# Altium schematic symbol library Edge_logic_analyzer.SchLib: 73 symbols (part 1 of 2)
Pins are listed as number, name and electrical type; pins without a type are passive.

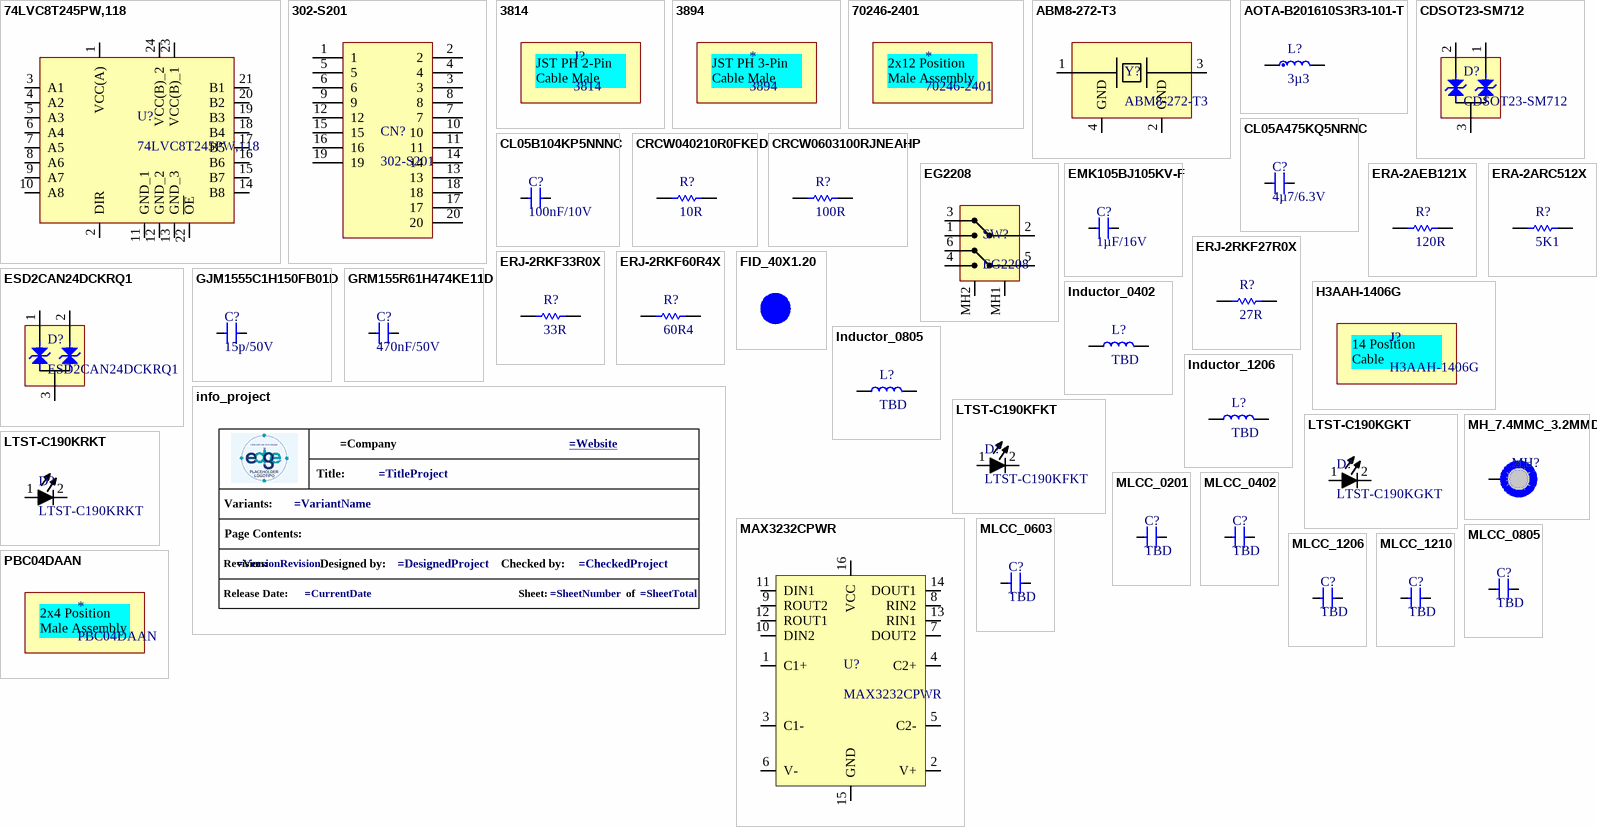
[diagram p0: symbols 74LVC8T245PW,118 to PBC04DAAN]

## 74LVC8T245PW,118
designator U?
IC - Translation Transceiver 1 Element 8 Bit per Element 3-State Output 24-TSSOP; Manufacturer 1: Nexperia; .Mounting: SMT; Datasheet Link: https://assets.nexperia.com/documents/data-sheet/74LVC_LVCH8T245.pdf; Height: 1.1mm; Manufacturer Part Number 1: 74LVC8T245PW,118; Mouser Part Number: 771-74LVC8T245PW118; Mouser Price/Stock: https://www.mouser.co.uk/ProductDetail/Nexperia/74LVC8T245PW118?qs=jquClx72t9C%2Fd6XxNRL47g%3D%3D; Arrow Part Number: 74LVC8T245PW,118; Arrow Price/Stock: https://www.arrow.com/en/products/74lvc8t245pw118/nexperia?region=nac; .PBChecked: *; .SCHChecked: *
footprint 74LVC8T245PW,118
pins: 1 VCC(A), 2 DIR, 3 A1, 4 A2, 5 A3, 6 A4, 7 A5, 8 A6, 9 A7, 10 A8, 11 GND_1, 12 GND_2, 13 GND_3, 14 B8, 15 B7, 16 B6, 17 B5, 18 B4, 19 B3, 20 B2, 21 B1, 22 ~{OE}, 23 VCC(B)_1, 24 VCC(B)_2

## 302-S201
designator CN? 
CONN - Connector Header Through Hole 20 position 0.100" (2.54mm); Manufacturer 1: On Shore Technology Inc.; Description: Conn Shrouded Header HDR 20 POS 2.54mm Solder ST Thru-Hole; .Mounting: PTH; Datasheet Link: https://www.on-shore.com/wp-content/uploads/2018/04/302-SXX1.pdf; Height: 9.05mm; Manufacturer Part Number 1: 302-S201; Arrow Part Number: 302-S201; Arrow Price/Stock: https://www.arrow.com/en/products/302-s201/on-shore-technology?region=nac; .SCHChecked: *; .PCBChecked: *
footprint SHDR20W66P254_2X10_3300X905X905P
pins: 1, 2, 3, 4, 5, 6, 7, 8, 9, 10, 11, 12, 13, 14, 15, 16, 17, 18, 19, 20

## 3814
designator J?  (mechanical)
ASSEMBLY - JST PH 2-Pin Cable Male Header 200mm | Adafruit Industries 3814; Supplier: DigiKey; Supplier Part Number: 1528-2617-ND; Manufacturer 1: Adafruit Industries; Manufacturer Part Number: 3814; Category: Rectangular Connectors; Stock: 1710; Pricing: 1=0,75 (USD); Schedule B: 8544420000, 8544420000|8544420000|8544420000|8544420000|8544420000; .SCHChecked: *
text: JST PH 2-Pin Cable Male

## 3894
designator *  (mechanical)
ASSEMBLY - Cable Assembly, 3 Conductor(s), Flexible Cord And Fixture Wire; Manufacturer 1: Adafruit Industries; Cable Length: 200mm; Number of Conductors: 3; Shielding: No; Supplier: Arrow Electronics; Supplier Part Number: 3894; Manufacturer Part Number 1: 3894; RoHS: Compliant; Category: Cables and Wire; Stock: 716; Pricing: 1=0,236 (USD); Schedule B: 8544420000, 8544420000|8544420000|8544420000|8544420000|8544420000; ComponentLink1URL: https://datasheet.octopart.com:443/3894-Adafruit-Industries-datasheet-182218805.pdf?src-supplier=IHS; ComponentLink1Description: https://datasheet.octopart.com:443/3894-Adafruit-Industries-datasheet-182218805.pdf?src-supplier=IHS; .SCHChecked: *
text: JST PH 3-Pin Cable Male

## 70246-2401
designator *  (mechanical)
ASSEMBLY - Conn Shrouded Header (4 Sides) HDR 24 POS 2.54mm Solder ST Top Entry Thru-Hole C-Grid® Tray; Manufacturer 1: Molex; Manufacturer Lifecycle Status: ACTIVE; Connector Type: Male Pin; Contact Resistance: 15mΩ; Current Rating: 2.5A; Gender: Male; Glow Wire Compliant: Non-compliant; Insulation Resistance: 12GΩ; Max Voltage Rating (AC): 250V; Number of Circuits: 20; Number of Contacts: 24; Plating: Tin; Plating Thickness: 381nm; Supplier: Newark; Supplier Part Number: 70246-2401; Manufacturer Part Number 1: 70246-2401; RoHS: Compliant; Category: Headers and Wire Housings; Stock: 2743; Pricing: 81=1,91, 100=1,67, 250=1,61, 500=1,55, 1000=1,48 (USD); China RoHS: Compliant; Color: Black; Contact Gender: Male; Contact Material: Bronze; Contact Mating Length: 6.096mm; Contact Plating: Gold; Country of Origin: SG; ELV: Compliant; Flammability Rating: UL94 V-0; Housing Color: Black; Housing Material: Polyester; Lead Free: Lead Free; Lifecycle Status: Production; Max Operating Temperature: 120°C; Min Operating Temperature: -55°C; Mounting Technology: Through Hole; Pins: 24; Number of Positions: 24; Number of Rows: 2; Orientation: Vertical; Pitch: 2.54mm; REACH SVHC: Yes; Row Spacing: 2.54mm; Terminal Pitch: 2.54mm; Termination: Solder; Voltage Rating: 250V; ComponentLink1URL: https://datasheet.octopart.com:443/70246-2401-Molex-datasheet-13789974.pdf?src-supplier=Sager+Electronics; ComponentLink1Description: https://datasheet.octopart.com:443/70246-2401-Molex-datasheet-13789974.pdf?src-supplier=Sager+Electronics; ComponentLink2URL: https://sigma.octopart.com:443/15650474/technical_drawing/Molex-70246-2401.pdf?src-supplier=Molex; ComponentLink2Description: https://sigma.octopart.com:443/15650474/technical_drawing/Molex-70246-2401.pdf?src-supplier=Molex; ComponentLink3URL: https://datasheet.octopart.com:443/702462401-Molex-datasheet-8335533.pdf?src-supplier=Verical; ComponentLink3Description: https://datasheet.octopart.com:443/702462401-Molex-datasheet-8335533.pdf?src-supplier=Verical; ComponentLink4URL: https://datasheet.octopart.com:443/70246-2401-Molex-datasheet-5315796.pdf?src-supplier=Verical; ComponentLink4Description: https://datasheet.octopart.com:443/70246-2401-Molex-datasheet-5315796.pdf?src-supplier=Verical; ComponentLink5URL: https://datasheet.octopart.com:443/70246-2401-Molex-datasheet-154757668.pdf?src-supplier=Master+Electronics; ComponentLink5Description: https://datasheet.octopart.com:443/70246-2401-Molex-datasheet-154757668.pdf?src-supplier=Master+Electronics; ComponentLink6URL: https://datasheet.octopart.com:443/70246-2401-Molex-datasheet-168217419.pdf?src-supplier=TME; ComponentLink6Description: https://datasheet.octopart.com:443/70246-2401-Molex-datasheet-168217419.pdf?src-supplier=TME; ComponentLink7URL: https://datasheet.octopart.com:443/70246-2401-Molex-datasheet-140187450.pdf?src-supplier=RS+(Formerly+Allied+Electronics); ComponentLink7Description: https://datasheet.octopart.com:443/70246-2401-Molex-datasheet-140187450.pdf?src-supplier=RS+(Formerly+Allied+Electronics); ComponentLink8URL: https://datasheet.octopart.com:443/70246-2401-Molex-datasheet-120155468.pdf?src-supplier=RS+(Formerly+Allied+Electronics); ComponentLink8Description: https://datasheet.octopart.com:443/70246-2401-Molex-datasheet-120155468.pdf?src-supplier=RS+(Formerly+Allied+Electronics); ComponentLink9URL: https://datasheet.octopart.com:443/70246-2401-Molex-datasheet-62105713.pdf?src-supplier=Electro+Sonic; ComponentLink9Description: https://datasheet.octopart.com:443/70246-2401-Molex-datasheet-62105713.pdf?src-supplier=Electro+Sonic; ComponentLink10URL: https://datasheet.octopart.com:443/70246-2401-Molex-datasheet-37171966.pdf?src-supplier=Electro+Sonic; ComponentLink10Description: https://datasheet.octopart.com:443/70246-2401-Molex-datasheet-37171966.pdf?src-supplier=Electro+Sonic; ComponentLink11URL: https://datasheet.octopart.com:443/70246-2401-Molex-datasheet-23710771.pdf?src-supplier=Electro+Sonic; ComponentLink11Description: https://datasheet.octopart.com:443/70246-2401-Molex-datasheet-23710771.pdf?src-supplier=Electro+Sonic; ComponentLink12URL: https://datasheet.octopart.com:443/0702462401-Molex-datasheet-11802917.pdf?src-supplier=Arrow+Electronics; ComponentLink12Description: https://datasheet.octopart.com:443/0702462401-Molex-datasheet-11802917.pdf?src-supplier=Arrow+Electronics; ComponentLink13URL: https://datasheet.octopart.com:443/70246-2401-Molex-datasheet-138174.pdf?src-supplier=DigiKey; ComponentLink13Description: https://datasheet.octopart.com:443/70246-2401-Molex-datasheet-138174.pdf?src-supplier=DigiKey; ComponentLink14URL: http://sigma.octopart.com:80/15650497/rohs_certificate/Molex-70246-2401.pdf?src-supplier=Compliance+Statements; ComponentLink14Description: http://sigma.octopart.com:80/15650497/rohs_certificate/Molex-70246-2401.pdf?src-supplier=Compliance+Statements; ComponentLink15URL: http://sigma.octopart.com:80/conflict_mineral_statement/Molex-company-72.pdf?src-supplier=Compliance+Statements; ComponentLink15Description: http://sigma.octopart.com:80/conflict_mineral_statement/Molex-company-72.pdf?src-supplier=Compliance+Statements; ComponentLink16URL: http://sigma.octopart.com:80/rohs_statement/Molex-company-73.pdf?src-supplier=Compliance+Statements; ComponentLink16Description: http://sigma.octopart.com:80/rohs_statement/Molex-company-73.pdf?src-supplier=Compliance+Statements; ComponentLink17URL: http://sigma.octopart.com:80/reach_statement/Molex-company-74.pdf?src-supplier=Compliance+Statements; ComponentLink17Description: http://sigma.octopart.com:80/reach_statement/Molex-company-74.pdf?src-supplier=Compliance+Statements; .SCHChecked: *
text: 2x12 Position Male Assembly

## ABM8-272-T3
designator Y?
IC - CRYSTAL 12 MHz ±30ppm Crystal 10pF 50 Ohms 4-SMD, No Lead; Manufacturer 1: ABRACON; .Mounting: SMT; Datasheet Link: https://abracon.com/datasheets/ABM8-272-T3.pdf; Height: 0.8mm; Manufacturer Part Number 1: ABM8-272-T3; Mouser Part Number: 815-ABM8-272-T3; Mouser Price/Stock: https://www.mouser.co.uk/ProductDetail/ABRACON/ABM8-272-T3?qs=QpmGXVUTftEj6miOiJBMxQ%3D%3D; .PCBChecked: *; .SCHChecked: *
footprint ABM8-272-T3
pins: 1 C1, 2 GND, 3 C2, 4 GND

## AOTA-B201610S3R3-101-T
designator L?, comment 3µ3
IND - 3.3 µH 2.1A 0806 140mOhm Shielded Molded Inductor  Max 0806 (2016 Metric); Manufacturer 1: Abracon; Manufacturer Part Number 1: AOTA-B201610S3R3-101-T; .Mounting: SMT; Supplier: Digikey; Supplier Part Number: 535-AOTA-B201610S3R3-101-TCT-ND; RoHS: No; Stock: 2887; Pricing: 1=0,22, 10=0,181, 100=0,1497, 1000=0,12251 (USD); .PCBChecked: *; .SCHChecked: *
footprint L0806 - RP2350
pins: 1, 2

## CDSOT23-SM712
designator D?
DIODE - TVS CLAMP 26V, 14V Clamp 17A (8/20µs) Ipp Tvs Diode Surface Mount SOT-23-3; Manufacturer 1: Bourns; .Mounting: SMT; Datasheet Link: http://uk.rs-online.com/web/p/products/7673728; Height: 1.17mm; Manufacturer Part Number 1: CDSOT23-SM712; Mouser Part Number: 652-CDSOT23-SM712; Mouser Price/Stock: https://www.mouser.co.uk/ProductDetail/Bourns/CDSOT23-SM712?qs=FuI%252BOVLl4%2FLTY%2FGQ265RLA%3D%3D; Arrow Part Number: CDSOT23-SM712; Arrow Price/Stock: https://www.arrow.com/en/products/cdsot23-sm712/bourns?utm_currency=USD&region=nac; .PCBChecked: *; .SCHChecked: *
footprint CDSOT23-SM712
pins: 1 IO_1, 2 IO_2, 3 GND

## CL05A475KQ5NRNC
designator C?, comment 4µ7/6.3V
MLCC - 4.7 µF 6.3V 0402 X5R ±10%  Ceramic Capacitor X5R; Manufacturer 1: Samsung; Manufacturer Part Number 1: CL05A475KQ5NRNC; Value: 4.7uF; Multilayer: Yes; .Mounting: SMT; Supplier: Digikey; Supplier Part Number: 1276-1481-1-ND; RoHS: Yes; Category: Ceramic Capacitors; Stock: 761086; Pricing: 1=0,08, 10=0,026, 100=0,016, 1000=0,0112, 2500=0,0096 (USD); Mounting Technology: Surface Mount; Pins: 2; Dielectric Material: Ceramic; Package Shape: Rectangular; Case/Package: 0402; Terminal Finish: Nickel; Min Operating Temperature: -55°C; Max Operating Temperature: 85°C; JESD-609 Code: e3; Capacitor Type: Ceramic; Tolerance  (fill in as +-): 10%; Packaging: Tape and Reel; Tolerance (fill in as +-): 10%; Rated DC Voltage (URdc): 6.3V; Temperature Characteristics Code: X5R; Termination: Wraparound; Reach SVHC Compliant: Yes; RoHS Compliant: Yes; ComponentLink1URL: https://datasheet.ciiva.com:443/pdfs/VipMasterIC/IC/SEMS/SEMS-S-A0008521219/SEMS-S-A0008521124-1.pdf?src-supplier=IHS+Markit; ComponentLink1Description: https://datasheet.ciiva.com:443/pdfs/VipMasterIC/IC/SEMS/SEMS-S-A0008521219/SEMS-S-A0008521124-1.pdf?src-supplier=IHS+Markit; ComponentLink2URL: https://datasheet.ciiva.com/25793/cl05a475kq5nrnc-25793634.pdf?src-supplier=Digikey; ComponentLink2Description: https://datasheet.ciiva.com/25793/cl05a475kq5nrnc-25793634.pdf?src-supplier=Digikey; ComponentLink3URL: https://datasheet.ciiva.com/26838/getdatasheetpartid-353228-26838196.pdf?src-supplier=Verical; ComponentLink3Description: https://datasheet.ciiva.com/26838/getdatasheetpartid-353228-26838196.pdf?src-supplier=Verical; .PCBChecked: *; .SCHChecked: *
footprint C0402
pins: 1, 2

## CL05B104KP5NNNC
designator C?, comment 100nF/10V
MLCC - 100nF 10V X7R 0402 ±10% Ceramic Capacitor; Manufacturer 1: Samsung; Manufacturer Part Number 1: CL05B104KP5NNNC; Multilayer: Yes; .Mounting: SMT; Supplier: Digikey; Supplier Part Number: 1276-1002-1-ND; RoHS: Yes; Category: Ceramic Capacitors; Stock: 29591550; Pricing: 1=0,08, 10=0,004, 100=0,0036, 1000=0,0032 (USD); Mounting Technology: Surface Mount; Pins: 2; Dielectric Material: Ceramic; Package Shape: Rectangular; Case/Package: 0402; Terminal Finish: Nickel; Min Operating Temperature: -55°C; Max Operating Temperature: 125°C; JESD-609 Code: e3; Value: 100nF; Capacitor Type: Ceramic; Tolerance  (fill in as +-): 10%; Package Style: SMTMeter; Packaging: Tape and Reel; Tolerance (fill in as +-): 10%; Rated DC Voltage (URdc): 10V; Temperature Characteristics Code: X7R; Termination: Wraparound; Length: 1mm; Width: 0.5mm; Height: 0.5mm; Reach SVHC Compliant: Yes; RoHS Compliant: Yes; ComponentLink1URL: https://datasheet.ciiva.com:443/pdfs/VipMasterIC/IC/SEMS/SEMS-S-A0008523115/SEMS-S-A0008523129-1.pdf?src-supplier=IHS+Markit; ComponentLink1Description: https://datasheet.ciiva.com:443/pdfs/VipMasterIC/IC/SEMS/SEMS-S-A0008523115/SEMS-S-A0008523129-1.pdf?src-supplier=IHS+Markit; ComponentLink2URL: https://datasheet.ciiva.com/15165/getdatasheetpartid-37100-15165107.pdf?src-supplier=Verical; ComponentLink2Description: https://datasheet.ciiva.com/15165/getdatasheetpartid-37100-15165107.pdf?src-supplier=Verical; ComponentLink3URL: https://datasheet.ciiva.com/16498/cl05b104kq5nnnc-16498491.pdf?src-supplier=Future+Electronics; ComponentLink3Description: https://datasheet.ciiva.com/16498/cl05b104kq5nnnc-16498491.pdf?src-supplier=Future+Electronics; .PCBChecked: *; .SCHChecked: *
footprint C0402
pins: 1, 2

## CRCW040210R0FKED
designator R?, comment 10R
RES - 10R  1/16W 0402 ±1%  Chip Resistor; Manufacturer 1: Vishay; Manufacturer Part Number 1: CRCW040210R0FKED; Power: 63mW; Working Voltage: 50V; Temperature Coefficient (ppm/Cel): 100; Rated Temperature: 70°C; Package Height: 0.35mm; Package Length: 1mm; Package Width: 0.5mm; Reference Standard: AEC-Q200; .Mounting: SMT; Supplier: Digikey; Supplier Part Number: 541-10.0LCT-ND; RoHS: Yes; Category: Chip SMD Resistors; Stock: 496296; Pricing: 1=0,1, 10=0,03, 100=0,0148, 1000=0,0084 (USD); Mounting Technology: Surface Mount; Pins: 2; Case/Package: 0402; Terminal Finish: Nickel; Package Shape: Rectangular; Min Operating Temperature: -55°C; Max Operating Temperature: 155°C; Tolerance: 1%; JESD-609 Code: e3; Resistor Type: FIXED RESISTOR; Construction: Chip; Packaging: Tape and Reel; Value: 10R; Technology: METAL GLAZE/THICK FILM; Termination: Wraparound; Reach SVHC Compliant: Yes; RoHS Compliant: Yes; ComponentLink1URL: https://datasheet.ciiva.com:443/pdfs/VipMasterIC/IC/VISH/VISH-S-A0007266705/VISH-S-A0007266705-1.pdf?src-supplier=IHS+Markit; ComponentLink1Description: https://datasheet.ciiva.com:443/pdfs/VipMasterIC/IC/VISH/VISH-S-A0007266705/VISH-S-A0007266705-1.pdf?src-supplier=IHS+Markit; ComponentLink2URL: https://datasheet.ciiva.com/2463/dcrcwe3-2463040.pdf?src-supplier=Digikey; ComponentLink2Description: https://datasheet.ciiva.com/2463/dcrcwe3-2463040.pdf?src-supplier=Digikey; ComponentLink3URL: https://datasheet.ciiva.com/2463/dcrcwe3-2463041.pdf?src-supplier=Digikey; ComponentLink3Description: https://datasheet.ciiva.com/2463/dcrcwe3-2463041.pdf?src-supplier=Digikey; ComponentLink4URL: https://datasheet.ciiva.com/2463/dcrcwe3-2463042.pdf?src-supplier=Digikey; ComponentLink4Description: https://datasheet.ciiva.com/2463/dcrcwe3-2463042.pdf?src-supplier=Digikey; ComponentLink5URL: https://datasheet.ciiva.com/8336/dcrcwe3-8336700.pdf?src-supplier=Avnet; ComponentLink5Description: https://datasheet.ciiva.com/8336/dcrcwe3-8336700.pdf?src-supplier=Avnet; ComponentLink6URL: https://datasheet.ciiva.com/16755/70201119-16755541.pdf?src-supplier=Allied+Electronics; ComponentLink6Description: https://datasheet.ciiva.com/16755/70201119-16755541.pdf?src-supplier=Allied+Electronics; ComponentLink7URL: https://datasheet.ciiva.com/16760/70201119-16760941.pdf?src-supplier=Allied+Electronics; ComponentLink7Description: https://datasheet.ciiva.com/16760/70201119-16760941.pdf?src-supplier=Allied+Electronics; .PCBChecked: *; .SCHChecked: *
footprint R0402
pins: 1, 2

## CRCW0603100RJNEAHP
designator R?, comment 100R
RES - 100R  1/3W 0603 (1608 Metric) ±5%; Manufacturer 1: Vishay Dale; Manufacturer Part Number 1: CRCW0603100RJNEAHP; Power: 250mW; Rated Temperature: 70°C; Working Voltage: 75V; Temperature Coefficient (ppm/Cel): 200; Package Height: 0.45mm; Package Length: 1.6mm; Package Width: 0.85mm; Reference Standard: AEC-Q200; .Mounting: SMT; Supplier: Digikey; Supplier Part Number: 541-100SACT-ND; RoHS: Yes; Category: Chip SMD Resistors; Stock: 18342; Pricing: 1=0,14, 10=0,07, 50=0,0458, 100=0,0388, 500=0,02794, 1000=0,0248 (USD); Mounting Technology: Surface Mount; Pins: 2; Package Shape: Rectangular; Case/Package: 0603; Terminal Finish: Nickel; Min Operating Temperature: -55°C; Max Operating Temperature: 155°C; Tolerance: 5%; JESD-609 Code: e3; Resistor Type: FIXED RESISTOR; Construction: Chip; Packaging: Tape and Reel; Value: 100R; Technology: METAL GLAZE/THICK FILM; Termination: Wraparound; Reach SVHC Compliant: Yes; RoHS Compliant: Yes; ComponentLink1URL: https://datasheet.ciiva.com:443/pdfs/VipMasterIC/IC/VISH/VISH-S-A0009391795/VISH-S-A0009391795-1.pdf?src-supplier=IHS+Markit; ComponentLink1Description: https://datasheet.ciiva.com:443/pdfs/VipMasterIC/IC/VISH/VISH-S-A0009391795/VISH-S-A0009391795-1.pdf?src-supplier=IHS+Markit; ComponentLink2URL: https://datasheet.ciiva.com/8979/crcwhpe3-8979829.pdf?src-supplier=Avnet; ComponentLink2Description: https://datasheet.ciiva.com/8979/crcwhpe3-8979829.pdf?src-supplier=Avnet; ComponentLink3URL: https://datasheet.ciiva.com/5562/crcwhpe3-46056-5562229.pdf?src-supplier=Mouser; ComponentLink3Description: https://datasheet.ciiva.com/5562/crcwhpe3-46056-5562229.pdf?src-supplier=Mouser; .PCBChecked: *; .SCHChecked: *
footprint R0603
pins: 1, 2

## EG2208
designator SW?
SWITCH - Slide Switch DPDT Through Hole, Right Angle; Manufacturer 1: E-Switch; .Mounting: PTH; Datasheet Link: https://configured-product-images.s3.amazonaws.com/2D/specs/EG2208.pdf; Height: 5mm; Manufacturer Part Number 1: EG2208; Mouser Part Number: 612-EG2208; Mouser Price/Stock: https://www.mouser.co.uk/ProductDetail/E-Switch/EG2208?qs=xDsBkp9LkodhU1lD9QrRVw%3D%3D; .SCHChecked: *; .PCBChecked: *
footprint EG2208
pins: 1, 2 COM_1, 3, 4, 5 COM_2, 6, MH1, MH2

## EMK105BJ105KV-F
designator C?, comment 1µF/16V
MLCC - 1µF 16V 0402 X5R ±10%.; Manufacturer 1: Taiyo Yuden; Manufacturer Part Number 1: EMK105BJ105KV-F; Dielectric Material: Ceramic; Value: 1uF; Multilayer: Yes; Tolerance  (fill in as +-): 10%; .Mounting: SMT; Supplier 1: Avnet; Supplier Part Number 1: 84R9109; RoHS: Yes; Category: Ceramic Capacitors; Stock: 100000; Pricing: 10000=0,007, 20000=0,008 (USD); Mounting Technology: Surface Mount; Pins: 2; Package Shape: Rectangular; Case/Package: 0402; Terminal Finish: Nickel; Min Operating Temperature: -55°C; Max Operating Temperature: 85°C; JESD-609 Code: e3; Capacitor Type: Ceramic; Package Style: SMTMeter; Packaging: Tape and Reel; Tolerance (fill in as +-): 10%; Rated DC Voltage (URdc): 16V; Temperature Characteristics Code: X5R; Termination: Wraparound; Length: 1mm; Width: 0.5mm; Height: 0.5mm; Reach SVHC Compliant: Yes; RoHS Compliant: Yes; ComponentLink1URL: https://datasheet.ciiva.com:443/pdfs/VipMasterIC/IC/TAIY/TAIY-S-A0009096450/TAIY-S-A0009096597-1.pdf?src-supplier=IHS+Markit; ComponentLink1Description: https://datasheet.ciiva.com:443/pdfs/VipMasterIC/IC/TAIY/TAIY-S-A0009096450/TAIY-S-A0009096597-1.pdf?src-supplier=IHS+Markit; ComponentLink2URL: https://datasheet.ciiva.com/134/emk105bj105kv-f-ss-134209.pdf?src-supplier=Digikey; ComponentLink2Description: https://datasheet.ciiva.com/134/emk105bj105kv-f-ss-134209.pdf?src-supplier=Digikey; ComponentLink3URL: https://datasheet.ciiva.com/30259/265emk105bj105kv-f-30259872.pdf?src-supplier=Onlinecomponents.com; ComponentLink3Description: https://datasheet.ciiva.com/30259/265emk105bj105kv-f-30259872.pdf?src-supplier=Onlinecomponents.com; ComponentLink4URL: https://datasheet.ciiva.com/15920/964emk105bj105kv-f-15920402.pdf?src-supplier=Onlinecomponents.com; ComponentLink4Description: https://datasheet.ciiva.com/15920/964emk105bj105kv-f-15920402.pdf?src-supplier=Onlinecomponents.com; ComponentLink5URL: https://datasheet.ciiva.com/26871/getdatasheetpartid-638287-26871289.pdf?src-supplier=Verical; ComponentLink5Description: https://datasheet.ciiva.com/26871/getdatasheetpartid-638287-26871289.pdf?src-supplier=Verical; ComponentLink6URL: https://datasheet.ciiva.com/5424/mlcc01-e-5424190.pdf?src-supplier=Mouser; ComponentLink6Description: https://datasheet.ciiva.com/5424/mlcc01-e-5424190.pdf?src-supplier=Mouser; ComponentLink7URL: https://datasheet.ciiva.com/22694/1497285-22694239.pdf?src-supplier=Element14; ComponentLink7Description: https://datasheet.ciiva.com/22694/1497285-22694239.pdf?src-supplier=Element14; ComponentLink8URL: https://datasheet.ciiva.com/7657/1497285-7657320.pdf?src-supplier=Element14; ComponentLink8Description: https://datasheet.ciiva.com/7657/1497285-7657320.pdf?src-supplier=Element14; .PCBChecked: *; .SCHChecked: *
footprint C0402
pins: 1, 2

## ERA-2AEB121X
designator R?, comment 120R
RES - 120R  1/16W  0402  ±0.1% Chip Resistor; Manufacturer 1: Panasonic; Manufacturer Part Number 1: ERA-2AEB121X; Power: 63mW; Rated Temperature: 85°C; Working Voltage: 25V; Temperature Coefficient (ppm/Cel): 25; Package Height: 0.35mm; Package Length: 1mm; Package Width: 0.5mm; Reference Standard: AEC-Q200; .Mounting: SMT; Supplier: Digikey; Supplier Part Number: P120DCCT-ND; RoHS: Yes; Category: Chip SMD Resistors; Stock: 44539; Pricing: 1=0,1, 10=0,082, 50=0,0716, 100=0,0677, 500=0,05944, 1000=0,05637, 5000=0,05076, 10000=0,05153, 20000=0,04948, 30000=0,04884, 50000=0,04563 (USD); Mounting Technology: Surface Mount; Pins: 2; Case/Package: 0402; Terminal Finish: Nickel; Min Operating Temperature: -55°C; Max Operating Temperature: 155°C; Tolerance: 0.1%; JESD-609 Code: e3; Termination: Wraparound; Resistor Type: FIXED RESISTOR; Construction: Rectangular; Packaging: Tape and Reel; Value: 120R; Technology: THIN FILM; Reach SVHC Compliant: Yes; RoHS Compliant: Yes; ComponentLink1URL: https://datasheet.ciiva.com:443/pdfs/VipMasterIC/IC/PANA/PANA-S-A0009459258/PANA-S-A0009459258-1.pdf?src-supplier=IHS+Markit; ComponentLink1Description: https://datasheet.ciiva.com:443/pdfs/VipMasterIC/IC/PANA/PANA-S-A0009459258/PANA-S-A0009459258-1.pdf?src-supplier=IHS+Markit; ComponentLink2URL: https://datasheet.ciiva.com/22737/1776116-22737243.pdf?src-supplier=Element14; ComponentLink2Description: https://datasheet.ciiva.com/22737/1776116-22737243.pdf?src-supplier=Element14; ComponentLink3URL: https://datasheet.ciiva.com/22737/1776116-22737244.pdf?src-supplier=Element14; ComponentLink3Description: https://datasheet.ciiva.com/22737/1776116-22737244.pdf?src-supplier=Element14; ComponentLink4URL: https://datasheet.ciiva.com/24024/aoa0000ce26-197354-24024678.pdf?src-supplier=Mouser; ComponentLink4Description: https://datasheet.ciiva.com/24024/aoa0000ce26-197354-24024678.pdf?src-supplier=Mouser; ComponentLink5URL: https://datasheet.ciiva.com/25720/1776116-25720558.pdf?src-supplier=Farnell; ComponentLink5Description: https://datasheet.ciiva.com/25720/1776116-25720558.pdf?src-supplier=Farnell; ComponentLink6URL: https://datasheet.ciiva.com/9186/aoa0000ce26-9186151.pdf?src-supplier=Avnet; ComponentLink6Description: https://datasheet.ciiva.com/9186/aoa0000ce26-9186151.pdf?src-supplier=Avnet; ComponentLink7URL: https://datasheet.ciiva.com/30070/54aoa0000ce26-30070076.pdf?src-supplier=Onlinecomponents.com; ComponentLink7Description: https://datasheet.ciiva.com/30070/54aoa0000ce26-30070076.pdf?src-supplier=Onlinecomponents.com; .SCHChecked: *; .PCBChecked: *
footprint R0402
pins: 1, 2

## ERA-2ARC512X
designator R?, comment 5K1
RES - 5K1 Ohm 1/16W 0402 ±0.25% 50V; Manufacturer 1: Panasonic; Manufacturer Part Number 1: ERA-2ARC512X; .Mounting: SMT; Value: 5.1K; Supplier: Mouser; Supplier Part Number: 667-ERA-2ARC512X; RoHS: Yes; Category: Chip SMD Resistors; Stock: 3234; Pricing: 1=0,21, 10=0,177, 50=0,157, 100=0,147, 1000=0,121, 10000=0,104 (USD); ComponentLink1URL: https://industrial.panasonic.com/cdbs/www-data/pdf/RDM0000/AOA0000C307.pdf?src-supplier=Digikey; ComponentLink1Description: https://industrial.panasonic.com/cdbs/www-data/pdf/RDM0000/AOA0000C307.pdf?src-supplier=Digikey; .SCHChecked: *; .PCBChecked: *
footprint R0402
pins: 1, 2

## ERJ-2RKF27R0X
designator R?, comment 27R
RES- 27R 1/10W  0402 ±1% 0.1W Chip Resistor; Manufacturer 1: Panasonic; Manufacturer Part Number 1: ERJ-2RKF27R0X; Power: 100mW; Rated Temperature: 70°C; Working Voltage: 50V; Temperature Coefficient (ppm/Cel): 100; Package Height: 0.35mm; Package Length: 1mm; Package Width: 0.5mm; Reference Standard: AEC-Q200; .Mounting: SMT; Supplier: Digikey; Supplier Part Number: P27.0LCT-ND; RoHS: Yes; Category: Chip SMD Resistors; Stock: 682991; Pricing: 1=0,1, 10=0,028, 100=0,0138, 1000=0,00766, 2500=0,00632, 5000=0,00554 (USD); Mounting Technology: Surface Mount; Pins: 2; Package Shape: Rectangular; Case/Package: 0402; Terminal Finish: Nickel; Min Operating Temperature: -55°C; Max Operating Temperature: 155°C; Tolerance: 1%; JESD-609 Code: e3; Resistor Type: FIXED RESISTOR; Construction: Rectangular; Packaging: Tape and Reel; Value: 27R; Technology: METAL GLAZE/THICK FILM; Termination: Wraparound; Reach SVHC Compliant: Yes; RoHS Compliant: Yes; ComponentLink1URL: https://datasheet.ciiva.com:443/pdfs/VipMasterIC/IC/PANA/PANA-S-A0009889626/PANA-S-A0009889626-1.pdf?src-supplier=IHS+Markit; ComponentLink1Description: https://datasheet.ciiva.com:443/pdfs/VipMasterIC/IC/PANA/PANA-S-A0009889626/PANA-S-A0009889626-1.pdf?src-supplier=IHS+Markit; ComponentLink2URL: https://datasheet.ciiva.com/11821/0900766b80f80784-11821276.pdf?src-supplier=Rs; ComponentLink2Description: https://datasheet.ciiva.com/11821/0900766b80f80784-11821276.pdf?src-supplier=Rs; ComponentLink3URL: https://datasheet.ciiva.com/46373/1678782-46373578.pdf?src-supplier=Element14; ComponentLink3Description: https://datasheet.ciiva.com/46373/1678782-46373578.pdf?src-supplier=Element14; ComponentLink4URL: https://datasheet.ciiva.com/46373/1678782-46373579.pdf?src-supplier=Element14; ComponentLink4Description: https://datasheet.ciiva.com/46373/1678782-46373579.pdf?src-supplier=Element14; ComponentLink5URL: https://datasheet.ciiva.com/22681/1678782-22681159.pdf?src-supplier=Element14; ComponentLink5Description: https://datasheet.ciiva.com/22681/1678782-22681159.pdf?src-supplier=Element14; ComponentLink6URL: https://datasheet.ciiva.com/7891/aoa0000ce2-7891306.pdf?src-supplier=Element14; ComponentLink6Description: https://datasheet.ciiva.com/7891/aoa0000ce2-7891306.pdf?src-supplier=Element14; ComponentLink7URL: https://datasheet.ciiva.com/7891/426256-7891578.pdf?src-supplier=Element14; ComponentLink7Description: https://datasheet.ciiva.com/7891/426256-7891578.pdf?src-supplier=Element14; ComponentLink8URL: https://datasheet.ciiva.com/9191/aoa0000ce2-9191129.pdf?src-supplier=Avnet; ComponentLink8Description: https://datasheet.ciiva.com/9191/aoa0000ce2-9191129.pdf?src-supplier=Avnet; ComponentLink9URL: https://datasheet.ciiva.com/9191/aoa0000ce2-9191130.pdf?src-supplier=Avnet; ComponentLink9Description: https://datasheet.ciiva.com/9191/aoa0000ce2-9191130.pdf?src-supplier=Avnet; ComponentLink10URL: https://datasheet.ciiva.com/43467/1678782-43467165.pdf?src-supplier=Farnell; ComponentLink10Description: https://datasheet.ciiva.com/43467/1678782-43467165.pdf?src-supplier=Farnell; .PCBChecked: *; .SCHChecked: *
footprint R0402
pins: 1, 2

## ERJ-2RKF33R0X
designator R?, comment 33R
RES - 33R 1/10W 0402 ±1%  Chip Resistor; Manufacturer 1: Panasonic; Manufacturer Part Number 1: ERJ-2RKF33R0X; Power: 100mW; Rated Temperature: 70°C; Working Voltage: 50V; Temperature Coefficient (ppm/Cel): 100; Package Height: 0.35mm; Package Length: 1mm; Package Width: 0.5mm; Reference Standard: AEC-Q200; .Mounting: SMT; Supplier: Digikey; Supplier Part Number: P33.0LCT-ND; RoHS: Yes; Category: Chip SMD Resistors; Stock: 66806; Pricing: 1=0,1, 10=0,028, 100=0,0138, 1000=0,00766, 2500=0,00632, 5000=0,00554 (USD); Mounting Technology: Surface Mount; Pins: 2; Package Shape: Rectangular; Case/Package: 0402; Terminal Finish: Nickel; Min Operating Temperature: -55°C; Max Operating Temperature: 155°C; Tolerance: 1%; JESD-609 Code: e3; Resistor Type: FIXED RESISTOR; Construction: Rectangular; Packaging: Tape and Reel; Value: 33R; Technology: METAL GLAZE/THICK FILM; Termination: Wraparound; Reach SVHC Compliant: Yes; RoHS Compliant: Yes; ComponentLink1URL: https://datasheet.ciiva.com:443/pdfs/VipMasterIC/IC/PANA/PANA-S-A0009889626/PANA-S-A0009889626-1.pdf?src-supplier=IHS+Markit; ComponentLink1Description: https://datasheet.ciiva.com:443/pdfs/VipMasterIC/IC/PANA/PANA-S-A0009889626/PANA-S-A0009889626-1.pdf?src-supplier=IHS+Markit; ComponentLink2URL: https://datasheet.ciiva.com/11821/0900766b80f80784-11821292.pdf?src-supplier=Rs; ComponentLink2Description: https://datasheet.ciiva.com/11821/0900766b80f80784-11821292.pdf?src-supplier=Rs; ComponentLink3URL: https://datasheet.ciiva.com/5917/aoa0000ce2-5917817.pdf?src-supplier=Farnell; ComponentLink3Description: https://datasheet.ciiva.com/5917/aoa0000ce2-5917817.pdf?src-supplier=Farnell; ComponentLink4URL: https://datasheet.ciiva.com/43467/1678782-43467173.pdf?src-supplier=Farnell; ComponentLink4Description: https://datasheet.ciiva.com/43467/1678782-43467173.pdf?src-supplier=Farnell; ComponentLink5URL: https://datasheet.ciiva.com/9190/aoa0000ce2-9190507.pdf?src-supplier=Avnet; ComponentLink5Description: https://datasheet.ciiva.com/9190/aoa0000ce2-9190507.pdf?src-supplier=Avnet; ComponentLink6URL: https://datasheet.ciiva.com/24023/aoa0000ce2-24023999.pdf?src-supplier=Mouser; ComponentLink6Description: https://datasheet.ciiva.com/24023/aoa0000ce2-24023999.pdf?src-supplier=Mouser; ComponentLink7URL: https://datasheet.ciiva.com/46373/1678782-46373081.pdf?src-supplier=Element14; ComponentLink7Description: https://datasheet.ciiva.com/46373/1678782-46373081.pdf?src-supplier=Element14; ComponentLink8URL: https://datasheet.ciiva.com/46373/1678782-46373082.pdf?src-supplier=Element14; ComponentLink8Description: https://datasheet.ciiva.com/46373/1678782-46373082.pdf?src-supplier=Element14; ComponentLink9URL: https://datasheet.ciiva.com/7836/aoa0000ce2-7836490.pdf?src-supplier=Element14; ComponentLink9Description: https://datasheet.ciiva.com/7836/aoa0000ce2-7836490.pdf?src-supplier=Element14; ComponentLink10URL: https://datasheet.ciiva.com/7836/426256-7836813.pdf?src-supplier=Element14; ComponentLink10Description: https://datasheet.ciiva.com/7836/426256-7836813.pdf?src-supplier=Element14; ComponentLink11URL: https://datasheet.ciiva.com/16777/70260748-16777705.pdf?src-supplier=Allied+Electronics; ComponentLink11Description: https://datasheet.ciiva.com/16777/70260748-16777705.pdf?src-supplier=Allied+Electronics; .PCBChecked: *; .SCHChecked: *
footprint R0402
pins: 1, 2

## ERJ-2RKF60R4X
designator R?, comment 60R4
RES - 60R4  1/10W 0402  ±1%  Chip Resistor; Manufacturer 1: Panasonic; Manufacturer Part Number 1: ERJ-2RKF60R4X; Power: 100mW; Rated Temperature: 70°C; Value: 60.4R; Working Voltage: 50V; Temperature Coefficient (ppm/Cel): 100; Package Height: 0.35mm; Package Length: 1mm; Package Width: 0.5mm; Reference Standard: AEC-Q200; .Mounting: SMT; Supplier: Digikey; Supplier Part Number: P60.4LCT-ND; RoHS: Yes; Category: Chip SMD Resistors; Stock: 175855; Pricing: 1=0,1, 10=0,028, 100=0,0138, 1000=0,00766, 2500=0,00632, 5000=0,00554 (USD); Mounting Technology: Surface Mount; Pins: 2; Package Shape: Rectangular; Case/Package: 0402; Terminal Finish: Nickel; Min Operating Temperature: -55°C; Max Operating Temperature: 155°C; Tolerance: 1%; JESD-609 Code: e3; Resistor Type: FIXED RESISTOR; Construction: Rectangular; Packaging: Tape and Reel; Technology: METAL GLAZE/THICK FILM; Termination: Wraparound; Reach SVHC Compliant: Yes; RoHS Compliant: Yes; ComponentLink1URL: https://datasheet.ciiva.com:443/pdfs/VipMasterIC/IC/PANA/PANA-S-A0009889626/PANA-S-A0009889626-1.pdf?src-supplier=IHS+Markit; ComponentLink1Description: https://datasheet.ciiva.com:443/pdfs/VipMasterIC/IC/PANA/PANA-S-A0009889626/PANA-S-A0009889626-1.pdf?src-supplier=IHS+Markit; ComponentLink2URL: https://datasheet.ciiva.com/9188/aoa0000ce2-9188454.pdf?src-supplier=Avnet; ComponentLink2Description: https://datasheet.ciiva.com/9188/aoa0000ce2-9188454.pdf?src-supplier=Avnet; ComponentLink3URL: https://datasheet.ciiva.com/9188/aoa0000ce2-9188457.pdf?src-supplier=Avnet; ComponentLink3Description: https://datasheet.ciiva.com/9188/aoa0000ce2-9188457.pdf?src-supplier=Avnet; ComponentLink4URL: https://datasheet.ciiva.com/16777/70260748-16777353.pdf?src-supplier=Allied+Electronics; ComponentLink4Description: https://datasheet.ciiva.com/16777/70260748-16777353.pdf?src-supplier=Allied+Electronics; ComponentLink5URL: https://datasheet.ciiva.com/16783/70260748-16783483.pdf?src-supplier=Allied+Electronics; ComponentLink5Description: https://datasheet.ciiva.com/16783/70260748-16783483.pdf?src-supplier=Allied+Electronics; ComponentLink6URL: https://datasheet.ciiva.com/7853/aoa0000ce2-7853695.pdf?src-supplier=Element14; ComponentLink6Description: https://datasheet.ciiva.com/7853/aoa0000ce2-7853695.pdf?src-supplier=Element14; ComponentLink7URL: https://datasheet.ciiva.com/46373/1678782-46373448.pdf?src-supplier=Element14; ComponentLink7Description: https://datasheet.ciiva.com/46373/1678782-46373448.pdf?src-supplier=Element14; ComponentLink8URL: https://datasheet.ciiva.com/46373/1678782-46373449.pdf?src-supplier=Element14; ComponentLink8Description: https://datasheet.ciiva.com/46373/1678782-46373449.pdf?src-supplier=Element14; ComponentLink9URL: https://datasheet.ciiva.com/22674/1678782-22674277.pdf?src-supplier=Element14; ComponentLink9Description: https://datasheet.ciiva.com/22674/1678782-22674277.pdf?src-supplier=Element14; .PCBChecked: *; .SCHChecked: *
footprint R0402
pins: 1, 2

## ESD2CAN24DCKRQ1
designator D?
DIODE - TVS CLAMP - 37V (Typ) Clamp 5.7A (8/20µs) Ipp Tvs Diode Surface Mount SC-70-3; Manufacturer 1: Texas Instruments; .Mounting: SMT; Datasheet Link: https://www.ti.com/lit/ds/symlink/esd2can24-q1.pdf?ts=1669637432096&ref_url=https%253A%252F%252Fwww.ti.com%252Fproduct%252FESD2CAN24-Q1; Height: 1.1mm; Manufacturer Part Number 1: ESD2CAN24DCKRQ1; Mouser Part Number: 595-ESD2CAN24DCKRQ1; Mouser Price/Stock: https://www.mouser.co.uk/ProductDetail/Texas-Instruments/ESD2CAN24DCKRQ1?qs=Y0Uzf4wQF3mF7ctB4rszMA%3D%3D; Arrow Part Number: ESD2CAN24DCKRQ1; Arrow Price/Stock: https://www.arrow.com/en/products/esd2can24dckrq1/texas-instruments?utm_currency=USD&region=nac; .PCBChecked: *; .SCHChecked: *
footprint ESD2CAN24DCKRQ1
pins: 1 IO_1, 2 IO_2, 3 GND

## FID_40X1.20
designator FID?  (value not drawn)  (no BOM)
Fiducials
footprint FID_40X1.20

## GJM1555C1H150FB01D
designator C?, comment 15p/50V
MLCC - 15 pF 50V 0402 X5R ±1%  Ceramic Capacitor C0G, NP0; Manufacturer 1: Murata; Manufacturer Part Number 1: GJM1555C1H150FB01D; Value: 15pF; Multilayer: Yes; .Mounting: SMT; Supplier: Digikey; Supplier Part Number: 490-11191-1-ND; RoHS: Yes; Category: Ceramic Capacitors; Stock: 61415; Pricing: 1=0,13, 10=0,074, 100=0,0446, 1000=0,02973, 2500=0,02606, 5000=0,02385 (USD); Mounting Technology: Surface Mount; Pins: 2; Dielectric Material: Ceramic; Package Shape: Rectangular; Case/Package: 0402; Terminal Finish: Nickel; Min Operating Temperature: -55°C; Max Operating Temperature: 125°C; JESD-609 Code: e3; Capacitor Type: Ceramic; Tolerance  (fill in as +-): 1%; Packaging: Tape and Reel; Tolerance (fill in as +-): 1%; Rated DC Voltage (URdc): 50V; Temperature Characteristics Code: C0G; Termination: Wraparound; Reach SVHC Compliant: Yes; RoHS Compliant: Yes; ComponentLink1URL: https://datasheet.ciiva.com:443/pdfs/VipMasterIC/IC/MURE/MURE-S-A0004383799/MURE-S-A0004384018-1.pdf?src-supplier=IHS+Markit; ComponentLink1Description: https://datasheet.ciiva.com:443/pdfs/VipMasterIC/IC/MURE/MURE-S-A0004383799/MURE-S-A0004384018-1.pdf?src-supplier=IHS+Markit; ComponentLink2URL: https://datasheet.ciiva.com/11608/c02e-11608383.pdf?src-supplier=Avnet; ComponentLink2Description: https://datasheet.ciiva.com/11608/c02e-11608383.pdf?src-supplier=Avnet; .PCBChecked: *; .SCHChecked: *
footprint C0402
pins: 1, 2

## GRM155R61H474KE11D
designator C?, comment 470nF/50V
MLCC - 480nF 50V X5R 0402  ±10%  Ceramic Capacitor; Manufacturer 1: Murata; Manufacturer Part Number 1: GRM155R61H474KE11D; Value: 470nF; Multilayer: Yes; .Mounting: SMT; Supplier: Digikey; Supplier Part Number: 490-16354-1-ND; RoHS: Yes; Category: Ceramic Capacitors; Stock: 147570; Pricing: 1=0,1, 10=0,051, 100=0,0304, 1000=0,01969, 2500=0,01739, 5000=0,01546 (USD); Mounting Technology: Surface Mount; Pins: 2; Dielectric Material: Ceramic; Package Shape: Rectangular; Case/Package: 0402; Terminal Finish: Tin; Min Operating Temperature: -55°C; Max Operating Temperature: 85°C; JESD-609 Code: e3; Capacitor Type: Ceramic; Tolerance  (fill in as +-): 10%; Packaging: Tape and Reel; Tolerance (fill in as +-): 10%; Rated DC Voltage (URdc): 50V; Temperature Characteristics Code: X5R; Termination: Wraparound; Reach SVHC Compliant: Yes; RoHS Compliant: Yes; ComponentLink1URL: https://datasheet.ciiva.com:443/pdfs/VipMasterIC/IC/MURE/MURE-S-A0004362469/MURE-S-A0004364779-1.pdf?src-supplier=IHS+Markit; ComponentLink1Description: https://datasheet.ciiva.com:443/pdfs/VipMasterIC/IC/MURE/MURE-S-A0004362469/MURE-S-A0004364779-1.pdf?src-supplier=IHS+Markit; ComponentLink2URL: http://search.murata.co.jp/Ceramy/image/img/A01X/G101/ENG/GRM155R61H474KE11-01.pdf?src-supplier=Digikey; ComponentLink2Description: http://search.murata.co.jp/Ceramy/image/img/A01X/G101/ENG/GRM155R61H474KE11-01.pdf?src-supplier=Digikey; ComponentLink3URL: https://datasheet.octopart.com/GRM155R61H474KE11D-Murata-datasheet-99353828.pdf?src-supplier=Future+Electronics; ComponentLink3Description: https://datasheet.octopart.com/GRM155R61H474KE11D-Murata-datasheet-99353828.pdf?src-supplier=Future+Electronics; .PCBChecked: *; .SCHChecked: *
footprint C0402
pins: 1, 2

## H3AAH-1406G
designator J?  (mechanical)
ASSEMBLY - Idc Cbl - HHSC14H/AE14G/HHSC14H; Manufacturer 1: ASSMANN WSW Components; Cable Pitch: 1.27mm; Connector Pitch: 2.54mm; Connector Type: IDC, Socket; Number of Contacts: 14; Shielding: Unshielded; Supplier: DigiKey; Supplier Part Number: H3AAH-1406G-ND; Manufacturer Part Number 1: H3AAH-1406G; RoHS: Compliant; Category: Cables and Wire; Stock: 455; Pricing: 1=1,19, 10=0,973, 25=0,8964, 50=0,843, 100=0,7927, 250=0,73076, 500=0,6872, 1000=0,64625, 2500=0,59586 (USD); Color: Grey; Contact Plating: Gold; Lead Free: Lead Free; Length: 152.4mm; Mounting Technology: Cable; Number of Positions: 14; Number of Rows: 2; .SCHChecked: *
text: 14 Position Cable Assembly

## Inductor_0402
designator L?, comment TBD
INDUCTOR - TBD 0402
footprint L0402
pins: 1, 2

## Inductor_0805
designator L?, comment TBD
INDUCTOR - TBD 0805
footprint L0805
pins: 1, 2

## Inductor_1206
designator L?, comment TBD
INDUCTOR - TBD 1206
footprint L1206 (Chip Capacitor, 2-Leads, Body 3.20x1.60mm, IPC Medium Density)
pins: 1, 2

## info_project
designator GPH?  (value not drawn)  (graphical)
GRAPHICAL - Info Project
text: Title:; Variants:; Page Contents:; Revision:; Designed by:; Checked by:; Release Date:; Sheet:; of

## LTST-C190KFKT
designator D?
DIODE - LED  Orange 605nm LED Indication - Discrete 2V 0603 (1608 Metric); Manufacturer 1: Vishay Lite-On; Shape: Rectangular; Optoelectronic Device Type: SINGLE COLOR LED; Lens Style: WATER CLEAR; Forward Current: 30mA; Forward Voltage: 2.4V; Luminous Intensity-Min: 130cd; Luminous Intensity-Nom: 90mcd; Channels: 1; Reverse Voltage-Max: 5V; Viewing Angle: 130°; Overall Height: 0.8mm; .Mounting: SMT; Supplier: Arrow Electronics; Supplier Part Number: LTST-C190KFKT; Manufacturer Part Number 1: LTST-C190KFKT; RoHS: Yes; Category: LEDs; Stock: 8000; Pricing: 4000=0,0337, 8000=0,0285, 24000=0,0224, 48000=0,022, 100000=0,0218 (USD); Mounting Technology: Surface Mount; Pins: 2; Color: Orange; Color@wavelength: Orange; Terminal Finish: Tin; Min Operating Temperature: -55°C; Max Operating Temperature: 85°C; JESD-609 Code: e3; Packaging: Tape and Reel; Size: 1.1mm; Terminal Pitch: 1.5mm; Reach SVHC Compliant: Yes; RoHS Compliant: Yes; ComponentLink1URL: https://datasheet.ciiva.com:443/pdfs/VipMasterIC/IC/LITE/LITE-S-A0008267416/LITE-S-A0008267416-1.pdf?src-supplier=IHS+Markit; ComponentLink1Description: https://datasheet.ciiva.com:443/pdfs/VipMasterIC/IC/LITE/LITE-S-A0008267416/LITE-S-A0008267416-1.pdf?src-supplier=IHS+Markit; ComponentLink2URL: https://datasheet.ciiva.com/11774/0900766b80dc02a7-11774744.pdf?src-supplier=Rs; ComponentLink2Description: https://datasheet.ciiva.com/11774/0900766b80dc02a7-11774744.pdf?src-supplier=Rs; ComponentLink3URL: https://datasheet.ciiva.com/12400/100-ltst-c190kfkt-53640-12400769.pdf?src-supplier=Mouser; ComponentLink3Description: https://datasheet.ciiva.com/12400/100-ltst-c190kfkt-53640-12400769.pdf?src-supplier=Mouser; ComponentLink4URL: https://datasheet.ciiva.com/15201/getdatasheetpartid-309341-15201388.pdf?src-supplier=Verical; ComponentLink4Description: https://datasheet.ciiva.com/15201/getdatasheetpartid-309341-15201388.pdf?src-supplier=Verical; ComponentLink5URL: https://datasheet.ciiva.com/16396/lite-on20ltst-c190kfkt-16396246.pdf?src-supplier=Future+Electronics; ComponentLink5Description: https://datasheet.ciiva.com/16396/lite-on20ltst-c190kfkt-16396246.pdf?src-supplier=Future+Electronics; ComponentLink6URL: https://datasheet.ciiva.com/2109/s-110-ltst-c190kfkt-2109976.pdf?src-supplier=Digikey; ComponentLink6Description: https://datasheet.ciiva.com/2109/s-110-ltst-c190kfkt-2109976.pdf?src-supplier=Digikey; ComponentLink7URL: https://datasheet.ciiva.com/2109/s-110-ltst-c190kfkt-2109977.pdf?src-supplier=Digikey; ComponentLink7Description: https://datasheet.ciiva.com/2109/s-110-ltst-c190kfkt-2109977.pdf?src-supplier=Digikey; ComponentLink8URL: https://datasheet.ciiva.com/2109/s-110-ltst-c190kfkt-2109978.pdf?src-supplier=Digikey; ComponentLink8Description: https://datasheet.ciiva.com/2109/s-110-ltst-c190kfkt-2109978.pdf?src-supplier=Digikey; .SCHCheked: *; .PCBChecked: *
footprint LTST-C190KFKT
pins: 1 "anode", 2 "cathode"

## LTST-C190KGKT
designator D?
DIODE - LED Green 571nm LED Indication - Discrete 2V 0603 (1608 Metric); Manufacturer 1: Vishay Lite-On; Shape: Rectangular; Lens Style: WATER CLEAR; Forward Current: 30mA; Forward Voltage: 2.4V; Luminous Intensity-Min: 130cd; Luminous Intensity-Nom: 35mcd; Channels: 1; Optoelectronic Device Type: SINGLE COLOR LED; Reverse Voltage-Max: 5V; Viewing Angle: 130°; Overall Height: 0.8mm; .Mounting: SMT; Supplier: Arrow Electronics; Supplier Part Number: LTST-C190KGKT; Manufacturer Part Number 1: LTST-C190KGKT; RoHS: Yes; Category: LEDs; Stock: 5; Pricing: 5=0,028 (USD); Mounting Technology: Surface Mount; Pins: 2; Color: Green; Color@wavelength: Green; Terminal Finish: Gold; Min Operating Temperature: -30°C; Max Operating Temperature: 85°C; JESD-609 Code: e4; Packaging: Tape and Reel; Size: 1.1mm; Terminal Pitch: 1.5mm; Reach SVHC Compliant: Yes; RoHS Compliant: Yes; ComponentLink1URL: https://datasheet.ciiva.com:443/pdfs/VipMasterIC/IC/LITE/LITE-S-A0003156132/LITE-S-A0003156132-1.pdf?src-supplier=IHS+Markit; ComponentLink1Description: https://datasheet.ciiva.com:443/pdfs/VipMasterIC/IC/LITE/LITE-S-A0003156132/LITE-S-A0003156132-1.pdf?src-supplier=IHS+Markit; ComponentLink2URL: https://datasheet.ciiva.com/12403/100-ltst-c190kgkt-63268-12403899.pdf?src-supplier=Mouser; ComponentLink2Description: https://datasheet.ciiva.com/12403/100-ltst-c190kgkt-63268-12403899.pdf?src-supplier=Mouser; ComponentLink3URL: https://datasheet.ciiva.com/11774/0900766b80dc02a8-11774060.pdf?src-supplier=Rs; ComponentLink3Description: https://datasheet.ciiva.com/11774/0900766b80dc02a8-11774060.pdf?src-supplier=Rs; ComponentLink4URL: https://datasheet.ciiva.com/15117/getdatasheetpartid-141494-15117731.pdf?src-supplier=Verical; ComponentLink4Description: https://datasheet.ciiva.com/15117/getdatasheetpartid-141494-15117731.pdf?src-supplier=Verical; ComponentLink5URL: https://datasheet.ciiva.com/2109/s-110-ltst-c190kgkt-2109988.pdf?src-supplier=Digikey; ComponentLink5Description: https://datasheet.ciiva.com/2109/s-110-ltst-c190kgkt-2109988.pdf?src-supplier=Digikey; ComponentLink6URL: https://datasheet.ciiva.com/2109/s-110-ltst-c190kgkt-2109989.pdf?src-supplier=Digikey; ComponentLink6Description: https://datasheet.ciiva.com/2109/s-110-ltst-c190kgkt-2109989.pdf?src-supplier=Digikey; ComponentLink7URL: https://datasheet.ciiva.com/2109/s-110-ltst-c190kgkt-2109990.pdf?src-supplier=Digikey; ComponentLink7Description: https://datasheet.ciiva.com/2109/s-110-ltst-c190kgkt-2109990.pdf?src-supplier=Digikey; .SCHChecked: *; .PCBChecked: *
footprint LTST-C190KGKT
pins: 1 "anode", 2 "cathode"

## LTST-C190KRKT
designator D?
DIODE - LED Red 631nm LED Indication - Discrete 2V 0603 (1608 Metric); Manufacturer 1: Vishay Lite-On; Shape: Rectangular; Lens Style: WATER CLEAR; Forward Current: 30mA; Forward Voltage: 2.4V; Luminous Intensity-Min: 130cd; Luminous Intensity-Nom: 54mcd; Channels: 1; Optoelectronic Device Type: SINGLE COLOR LED; Reverse Voltage-Max: 5V; Viewing Angle: 130°; Overall Height: 0.8mm; .Mounting: SMT; Supplier: Digikey; Supplier Part Number: 160-1436-1-ND; Manufacturer Part Number 1: LTST-C190KRKT; RoHS: Yes; Category: LEDs; Stock: 23487; Pricing: 1=0,14, 10=0,094, 100=0,0649, 500=0,05134, 1000=0,04682, 2000=0,04295 (USD); Mounting Technology: Surface Mount; Pins: 2; Color: Red; Color@wavelength: Red; Min Operating Temperature: -30°C; Max Operating Temperature: 85°C; Packaging: Tape and Reel; Size: 1.1mm; Terminal Pitch: 1.5mm; Reach SVHC Compliant: Yes; RoHS Compliant: Yes; ComponentLink1URL: https://datasheet.ciiva.com:443/pdfs/VipMasterIC/IC/LITE/LITE-S-A0003370447/LITE-S-A0003370447-1.pdf?src-supplier=IHS+Markit; ComponentLink1Description: https://datasheet.ciiva.com:443/pdfs/VipMasterIC/IC/LITE/LITE-S-A0003370447/LITE-S-A0003370447-1.pdf?src-supplier=IHS+Markit; ComponentLink2URL: https://datasheet.ciiva.com/11774/0900766b80dc02a9-11774043.pdf?src-supplier=Rs; ComponentLink2Description: https://datasheet.ciiva.com/11774/0900766b80dc02a9-11774043.pdf?src-supplier=Rs; ComponentLink3URL: https://datasheet.ciiva.com/12403/100-ltst-c190krkt-59805-12403895.pdf?src-supplier=Mouser; ComponentLink3Description: https://datasheet.ciiva.com/12403/100-ltst-c190krkt-59805-12403895.pdf?src-supplier=Mouser; ComponentLink4URL: https://datasheet.ciiva.com/16427/ltst-c190krkt-16427674.pdf?src-supplier=Future+Electronics; ComponentLink4Description: https://datasheet.ciiva.com/16427/ltst-c190krkt-16427674.pdf?src-supplier=Future+Electronics; ComponentLink5URL: https://datasheet.ciiva.com/19482/1260381-19482354.pdf?src-supplier=Jameco; ComponentLink5Description: https://datasheet.ciiva.com/19482/1260381-19482354.pdf?src-supplier=Jameco; ComponentLink6URL: https://datasheet.ciiva.com/15117/getdatasheetpartid-57395-15117240.pdf?src-supplier=Verical; ComponentLink6Description: https://datasheet.ciiva.com/15117/getdatasheetpartid-57395-15117240.pdf?src-supplier=Verical; ComponentLink7URL: https://datasheet.ciiva.com/2109/s-110-ltst-c190krkt-2109991.pdf?src-supplier=Digikey; ComponentLink7Description: https://datasheet.ciiva.com/2109/s-110-ltst-c190krkt-2109991.pdf?src-supplier=Digikey; ComponentLink8URL: https://datasheet.ciiva.com/2109/s-110-ltst-c190krkt-2109992.pdf?src-supplier=Digikey; ComponentLink8Description: https://datasheet.ciiva.com/2109/s-110-ltst-c190krkt-2109992.pdf?src-supplier=Digikey; ComponentLink9URL: https://datasheet.ciiva.com/2109/s-110-ltst-c190krkt-2109993.pdf?src-supplier=Digikey; ComponentLink9Description: https://datasheet.ciiva.com/2109/s-110-ltst-c190krkt-2109993.pdf?src-supplier=Digikey; ComponentLink10URL: https://datasheet.ciiva.com/26937/getdatasheetpartid-631582-26937958.pdf?src-supplier=Verical; ComponentLink10Description: https://datasheet.ciiva.com/26937/getdatasheetpartid-631582-26937958.pdf?src-supplier=Verical; .PCBChecked: *; .SCHChecked: *
footprint LTST-C190KRKT
pins: 1 "anode", 2 "cathode"